# EAGLE library part TB6612FNG,C,8,EL (library motor_drivers)
otor / Motion / Ignition Controllers & Drivers Brush Motor Driver IC Source: Datasheet <http://toshiba.semicon-storage.com/info/docget.jsp?did=10660&prodName=TB6612FNG>
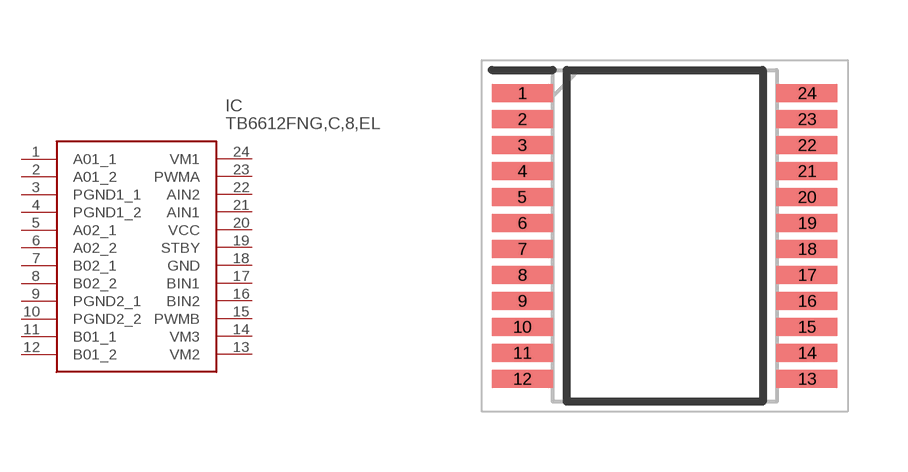
[diagram p0: symbol with the pads of SOP65P760X160-24N; footprint SOP65P760X160-24N]

Designator prefix IC

## TB6612FNG,C,8,EL (DESCRIPTION: otor / Motion / Ignition Controllers & Drivers Brush Motor Driver IC; HEIGHT: 1.6mm; MANUFACTURER_NAME: Toshiba; MANUFACTURER_PART_NUMBER: TB6612FNG,C,8,EL; MOUSER_PART_NUMBER: 757-TB6612FNGC8EL; MOUSER_PRICE-STOCK: https://www.mouser.com/Search/Refine.aspx?Keyword=757-TB6612FNGC8EL)  [SOP65P760X160-24N]
1  A01_1
2  A01_2
3  PGND1_1  pwr
4  PGND1_2  pwr
5  A02_1
6  A02_2
7  B02_1
8  B02_2
9  PGND2_1  pwr
10  PGND2_2  pwr
11  B01_1
12  B01_2
13  VM2
14  VM3
15  PWMB
16  BIN2  in
17  BIN1  in
18  GND  pwr
19  STBY
20  VCC  pwr
21  AIN1  in
22  AIN2  in
23  PWMA
24  VM1

## Footprint SOP65P760X160-24N (pad centres in mm)
SSOP24-P-300-0.65A
smd 1.525 x 0.45: 1 -3.562,3.575; 2 -3.562,2.925; 3 -3.562,2.275; 4 -3.562,1.625; 5 -3.562,0.975; 6 -3.562,0.325; 7 -3.562,-0.325; 8 -3.562,-0.975; 9 -3.562,-1.625; 10 -3.562,-2.275; 11 -3.562,-2.925; 12 -3.562,-3.575; 13 3.562,-3.575; 14 3.562,-2.925; 15 3.562,-2.275; 16 3.562,-1.625; 17 3.562,-0.975; 18 3.562,-0.325; 19 3.562,0.325; 20 3.562,0.975; 21 3.562,1.625; 22 3.562,2.275; 23 3.562,2.925; 24 3.562,3.575